# Altium schematic symbol library LTC3025EDC#TRMPBF.SchLib: 1 symbol
Pins are listed as number, name and electrical type; pins without a type are passive.

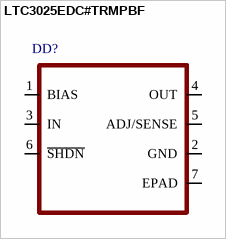
[diagram p0: symbol LTC3025EDC#TRMPBF]

## LTC3025EDC#TRMPBF
designator DD?
pins: 1 BIAS, 2 GND, 3 IN, 4 OUT, 5 ADJ/SENSE, 6 ~{SHDN}, 7 EPAD